# Altium schematic symbol library SCH - CONNECTORS - XKB - DC-005-5A-2.5-SMT.SCHLIB: 1 symbol
Pins are listed as number, name and electrical type; pins without a type are passive.

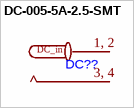
[diagram p0: symbol DC-005-5A-2.5-SMT]

## DC-005-5A-2.5-SMT
designator DC??
DC Power Receptacle 260℃ Brass -20℃~+70℃ 2.5mm 6.5mm 2.5A 24V SMD AC/DC Power Connectors ROHS; MFR.Part #: DC-005-5A-2.5-SMT; Manufacturer: XKB Connectivity; JLCPCB Part #: C319133; Source: JLCPCB; ComponentLink1Description: New link; ComponentLink1URL: https://jlcpcb.com/partdetail/XkbConnectivity-DC_005_5A_2_5SMT/C319133
pins: 1, 2 VIN, 3, 4 4
text: DC_in